# Altium footprint library Fuse.PcbLib: 3 footprints
Each footprint in its own frame and in the unit in brackets; x right, y up, seen from the top. Pads: shape width x height; smd on the part's side, far side on the other; paste and mask are expansions set on the pad; w line width, h text height; cw(c..) or ccw(c..) is an arc to the next point about the centre after c.
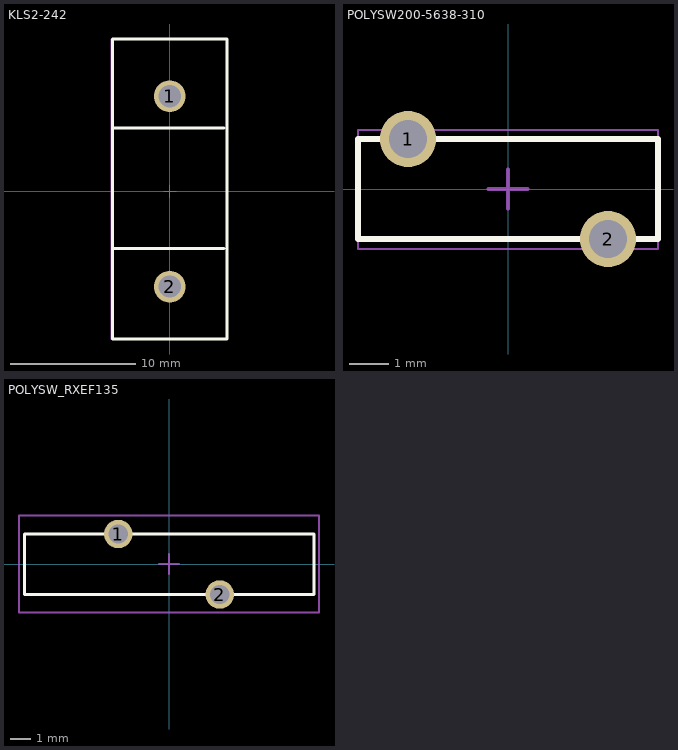
[diagram p0: the footprints below, top view; thin cyan lines are the x and y axes]

## KLS2-242 [mil] "Fuse_holder"
pads (2):
  round 100 hole 70: 1(0,300) 2(0,-300)
Top Overlay:
  lines w10: -180,-180 170,-180 ; -180,200 170,200 ; -180,-465 180,-465 180,480 -180,480 -180,-465
Mechanical 13:
  lines w3.94: -180,-465 -180,480 180,480 180,-465 -180,-465
  text ".Designator" at -85.98,65.39 h40
Mechanical 15:
  lines w3.94: -19.68,0 19.69,0 ; 0,-19.69 0,19.68 ; -185,-465 180,-465 180,480 -185,480 -185,-465
3D body: height 530, standoff -94.64, extent -177.85,-466.23 179.72,478.65

## POLYSW200-5638-310 [mil] "POLYSW200-5638-310"
pads (2):
  round 56 hole 38: 1(-100,50) 2(100,-50)
Top Overlay:
  lines w6: -150,-50 -150,50 150,50 150,-50 -150,-50
Mechanical 13:
  lines w2: -150,-60 -150,59 150,59 150,-60 -150,-60
  text ".Designator" at -115,-14 h60
Mechanical 15:
  lines w3.94: -19.68,0 19.69,0 ; 0,-19.68 0,19.69 ; -150,-50 150,-50 150,50 -150,50 -150,-50
Mechanical 16:
  text "1" at -100,34 h40
  text "2" at 100,-66 h40
3D body: height 472.44, standoff 0, extent -150,-60 150,59

## POLYSW_RXEF135 [mil] "POLYSW_RXEF135"
pads (2):
  round 56 hole 38: 1(-100,59) 2(100,-60)
Top Overlay:
  lines w6: -284,-60 285,-60 285,59 -284,59 -284,-60
Mechanical 13:
  lines w2: -284,-60 -284,59 285,59 285,-60 -284,-60
  text ".Designator" at -115,-14 h60
Mechanical 15:
  lines w3.94: -19.68,0 19.69,0 ; 0,-19.68 0,19.69 ; -295,-95 -295,95 295,95 295,-95 -295,-95
3D body: height 866.14, standoff 0, extent -284,-60 285,59